# Altium schematic symbol library RF_SoC.SchLib: 1 symbol
Pins are listed as number, name and electrical type; pins without a type are passive.

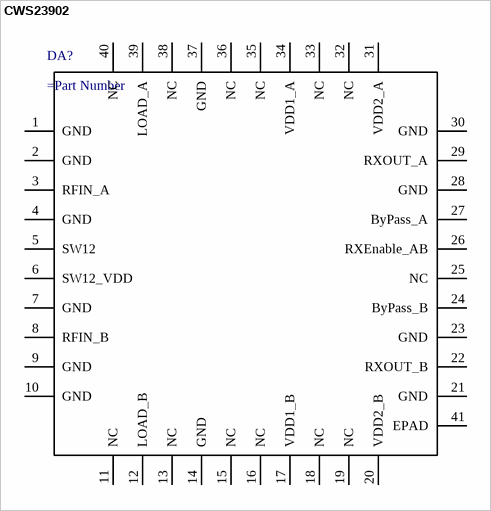
[diagram p0: symbol CWS23902]

## CWS23902
designator DA?
pins: 1 GND, 2 GND, 3 RFIN_A, 4 GND, 5 SW12, 6 SW12_VDD, 7 GND, 8 RFIN_B, 9 GND, 10 GND, 11 NC, 12 LOAD_B, 13 NC, 14 GND, 15 NC, 16 NC, 17 VDD1_B, 18 NC, 19 NC, 20 VDD2_B, 21 GND, 22 RXOUT_B, 23 GND, 24 ByPass_B, 25 NC, 26 RXEnable_AB, 27 ByPass_A, 28 GND, 29 RXOUT_A, 30 GND, 31 VDD2_A, 32 NC, 33 NC, 34 VDD1_A, 35 NC, 36 NC, 37 GND, 38 NC, 39 LOAD_A, 40 NC, 41 EPAD